# Altium footprint library МЦТР.00010592.00.002.PcbLib: 24 footprints (part 2 of 2)
Each footprint in its own frame and in the unit in brackets; x right, y up, seen from the top. Pads: shape width x height; smd on the part's side, far side on the other; paste and mask are expansions set on the pad; w line width, h text height; cw(c..) or ccw(c..) is an arc to the next point about the centre after c.
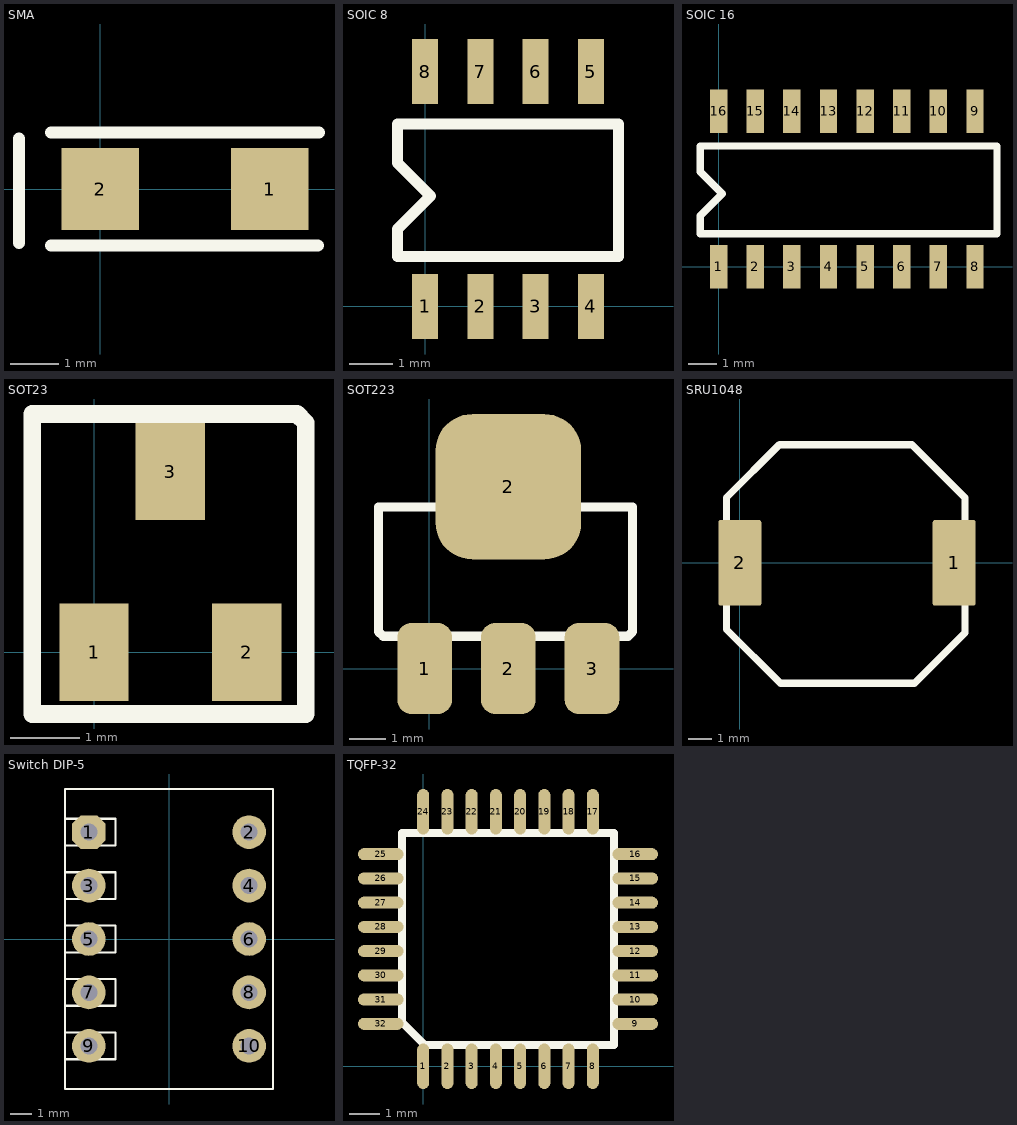
[diagram p1: the footprints below, top view; thin cyan lines are the x and y axes]

## SMA [mm]
height 2
pads (2):
  rect 1.6x1.7 smd: 1(3.5,0) 2(0,0)
Top Overlay:
  lines w0.254: -1.676,-1.118 -1.676,1.041 ; -1.016,-1.168 4.496,-1.168 ; -1.016,1.168 4.521,1.168

## SOIC 8 [mm]
height 1
pads (8):
  rect 0.6x1.5 smd: 1(0,0) 2(1.27,0) 3(2.54,0) 4(3.81,0) 5(3.81,5.4) 6(2.54,5.4) 7(1.27,5.4) 8(0,5.4)
Top Overlay:
  lines w0.254: -0.635,1.143 4.445,1.143 4.445,4.191 -0.635,4.191 -0.635,3.302 0.127,2.54 -0.635,1.778 -0.635,1.143
3D body "SN65HVD32DR.STEP": height 1.75, standoff 0, extent -0.548,-0.455 4.357,5.535

## SOIC 16 [mm]
height 1
pads (16):
  rect 0.6x1.5 smd: 1(0,0) 2(1.27,0) 3(2.54,0) 4(3.81,0) 5(5.08,0) 6(6.35,0) 7(7.62,0) 8(8.89,0) 9(8.89,5.4) 10(7.62,5.4) 11(6.35,5.4) 12(5.08,5.4) 13(3.81,5.4) 14(2.54,5.4) 15(1.27,5.4) 16(0,5.4)
Top Overlay:
  lines w0.254: -0.635,1.143 -0.635,1.778 0.127,2.54 -0.635,3.302 -0.635,4.191 9.652,4.191 9.652,1.143 -0.635,1.143
3D body "SOIC16.STEP": height 1.75, standoff 0, extent -0.505,-0.206 9.395,5.794

## SOT23 [mm]
height 1
pads (3):
  rect 1x1.4 smd: 1(0,0) 2(2.2,0) 3(1.1,2.6)
Top Overlay:
  lines w0.254: -0.889,-0.889 -0.889,3.429 2.921,3.429 3.048,3.302 3.048,-0.889 -0.889,-0.889
3D body "BZX84C5V1LT1G.STEP": height 1.11, standoff 0, extent -0.434,0.07 2.466,2.47

## SOT223 [mm]
height 1
pads (4):
  rrect50% 1.5x2.5 smd mask+0.1: 1(-0.127,0) 2(2.173,0) 3(4.473,0)
  rrect50% 4x4 smd: 2(2.173,5)
Top Overlay:
  lines w0.254: -1.397,1.016 -1.27,0.889 5.461,0.889 5.588,1.016 5.588,4.445 -1.397,4.445 -1.397,1.016
3D body "SOT223.STEP": height 1.8, standoff 0, extent -1.091,-0.578 5.409,6.42

## SRU1048 [mm]
height 5
pads (2):
  rrect10% 1.8x3.6 smd: 1(9,0) 2(0,0)
Top Overlay:
  lines w0.3: -0.559,-2.794 -0.559,2.743 1.659,4.961 7.231,4.961 9.449,2.743 9.449,-2.946 7.341,-5.055 1.702,-5.055 -0.559,-2.794
3D body "SRU1048330Y.STEP": height 5.1, standoff 0, extent -0.428,-5.254 9.572,4.746

## Switch DIP-5 [mm] "DIP-Switch 5 Pins"
height 8
pads (10):
  oct 1.6x1.6 hole 0.8: 1(-3.81,5.08)
  round 1.6 hole 0.8: 2(3.81,5.08) 3(-3.81,2.54) 4(3.81,2.54) 5(-3.81,0) 6(3.81,0) 7(-3.81,-2.54) 8(3.81,-2.54) 9(-3.81,-5.08) 10(3.81,-5.08)
Top Overlay:
  lines w0.1: -4.95,-5.715 -2.54,-5.715 -2.54,-4.445 -4.95,-4.445 ; -4.95,-3.175 -2.54,-3.175 -2.54,-1.905 -4.95,-1.905 ; -4.95,-0.635 -2.54,-0.635 -2.54,0.635 -4.95,0.635 ; -4.95,1.905 -2.54,1.905 -2.54,3.175 -4.95,3.175 ; -4.95,4.445 -2.54,4.445 -2.54,5.715 -4.95,5.715 ; -4.95,-7.13 -4.95,7.13 4.95,7.13 4.95,-7.13 -4.95,-7.13
3D body "DS1040-05RT.step": height 9.2, standoff -3.85, extent -6.4,-7.1 5,7.06

## TQFP-32 [mm]
pads (32):
  oval 0.4x1.5 smd mask+0.05: 1(0,0) 2(0.8,0) 3(1.6,0) 4(2.4,0) 5(3.2,0) 6(4,0) 7(4.8,0) 8(5.6,0) 17(5.6,8.4) 18(4.8,8.4) 19(4,8.4) 20(3.2,8.4) 21(2.4,8.4) 22(1.6,8.4) 23(0.8,8.4) 24(0,8.4)
  oval 1.5x0.4 smd mask+0.05: 9(7,1.4) 10(7,2.2) 11(7,3) 12(7,3.8) 13(7,4.6) 14(7,5.4) 15(7,6.2) 16(7,7) 25(-1.4,7) 26(-1.4,6.2) 27(-1.4,5.4) 28(-1.4,4.6) 29(-1.4,3.8) 30(-1.4,3) 31(-1.4,2.2) 32(-1.4,1.4)
Top Overlay:
  lines w0.254: -0.7,1.462 0.062,0.7 6.3,0.7 6.3,7.7 -0.7,7.7 -0.7,1.462
3D body "ATMEGA168PB-AU.STEP": height 1.2, standoff 0, extent -1.634,-0.309 7.366,8.691